# EAGLE library part SAMTEC-MMT-107-01-X-DH (library redashboard_rp2040)
Check availability <https://pricing.snapeda.com/parts/MMT-107-01-S-DH-P-TR/Samtec/view-part?ref=eda>
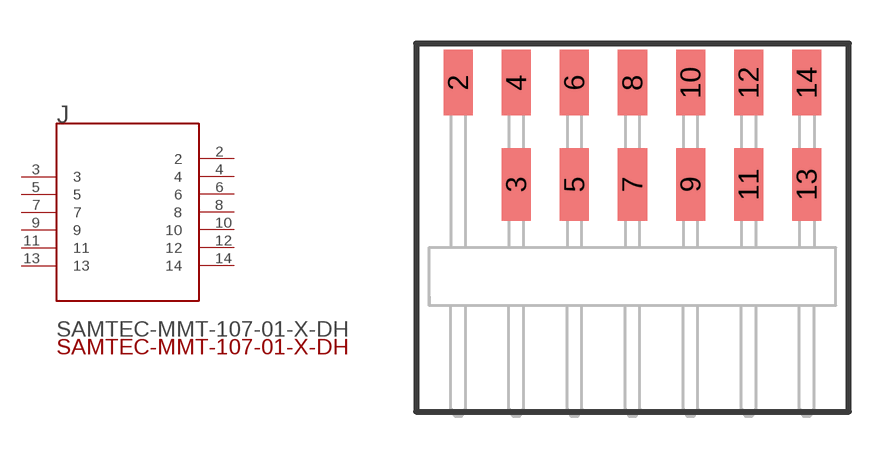
[diagram p2: symbol with the pads of SAMTEC-MMT-107-01-X-DH; footprint SAMTEC-MMT-107-01-X-DH]

Designator prefix J

## SAMTEC-MMT-107-01-X-DHJ (AVAILABILITY: In Stock; CHECK_PRICES: https://www.snapeda.com/parts/MMT-107-01-S-DH-P-TR/Samtec/view-part/?ref=eda; DESCRIPTION: Connector Header Surface Mount, Right Angle 14 position 0.079 (2.00mm); MF: Samtec; MP: MMT-107-01-S-DH-P-TR; PACKAGE: None; PRICE: None; SNAPEDA_LINK: https://www.snapeda.com/parts/MMT-107-01-S-DH-P-TR/Samtec/view-part/?ref=snap)  [SAMTEC-MMT-107-01-X-DH]
2  2  pas
3  3  pas
4  4  pas
5  5  pas
6  6  pas
7  7  pas
8  8  pas
9  9  pas
10  10  pas
11  11  pas
12  12  pas
13  13  pas
14  14  pas

## Footprint SAMTEC-MMT-107-01-X-DH (pad centres in mm)
translated Allegro footprint
smd 1 x 2.25: 2 -6,6.68; 4 -4,6.68; 6 -2,6.68; 8 0,6.68; 10 2,6.68; 12 4,6.68; 14 6,6.68
smd 1 x 2.5: 3 -4,3.175; 5 -2,3.175; 7 0,3.175; 9 2,3.175; 11 4,3.175; 13 6,3.175